# EAGLE library part HM2007PLCC (library vikc-ic)
HM2007 PLCC52 Speech Recognition
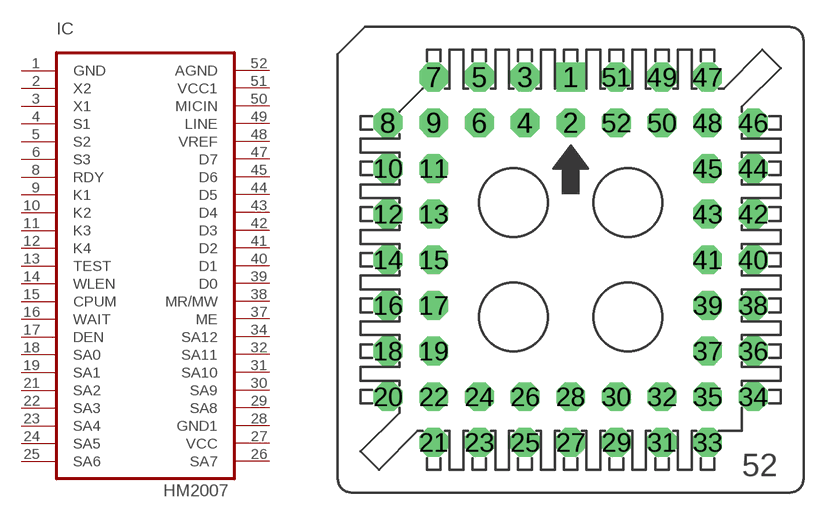
[diagram p0: symbol with the pads of PLCC52; footprint PLCC52]

Designator prefix U

## HM2007PLCC (IC: HM2007)  [PLCC52]
1  GND
2  X2
3  X1
4  S1
5  S2
6  S3
8  RDY
9  K1
10  K2
11  K3
12  K4
13  TEST
14  WLEN
15  CPUM
16  WAIT
17  DEN
18  SA0
19  SA1
21  SA2
22  SA3
23  SA4
24  SA5
25  SA6
26  SA7
27  VCC
28  GND1
29  SA8
30  SA9
31  SA10
32  SA11
34  SA12
37  ME
38  MR/MW
39  D0
40  D1
41  D2
42  D3
43  D4
44  D5
45  D6
47  D7
48  VREF
49  LINE
50  MICIN
51  VCC1
52  AGND

## Footprint PLCC52 (pad centres in mm)
drill 0.8 pad 1.6 square: 1 0,10.16
drill 0.8 pad 1.6 octagon: 2 0,7.62; 3 -2.54,10.16; 4 -2.54,7.62; 5 -5.08,10.16; 6 -5.08,7.62; 7 -7.62,10.16; 8 -10.16,7.62; 9 -7.62,7.62; 10 -10.16,5.08; 11 -7.62,5.08; 12 -10.16,2.54; 13 -7.62,2.54; 14 -10.16,0; 15 -7.62,0; 16 -10.16,-2.54; 17 -7.62,-2.54; 18 -10.16,-5.08; 19 -7.62,-5.08; 20 -10.16,-7.62; 21 -7.62,-10.16; 22 -7.62,-7.62; 23 -5.08,-10.16; 24 -5.08,-7.62; 25 -2.54,-10.16; 26 -2.54,-7.62; 27 0,-10.16; 28 0,-7.62; 29 2.54,-10.16; 30 2.54,-7.62; 31 5.08,-10.16; 32 5.08,-7.62; 33 7.62,-10.16; 34 10.16,-7.62; 35 7.62,-7.62; 36 10.16,-5.08; 37 7.62,-5.08; 38 10.16,-2.54; 39 7.62,-2.54; 40 10.16,0; 41 7.62,0; 42 10.16,2.54; 43 7.62,2.54; 44 10.16,5.08; 45 7.62,5.08; 46 10.16,7.62; 47 7.62,10.16; 48 7.62,7.62; 49 5.08,10.16; 50 5.08,7.62; 51 2.54,10.16; 52 2.54,7.62